# EAGLE library part C2858290 (library switch_multidirectional)
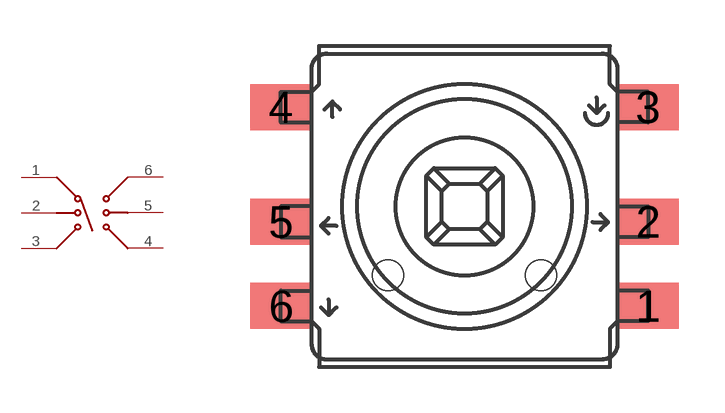
[diagram p0: symbol with the pads of C2858290; footprint C2858290]

Designator prefix -

## C2858290  [C2858290]
1  P$1
2  P$2
3  P$3
4  P$4
5  P$5
6  P$6

## Footprint C2858290 (pad centres in mm)
smd 2 x 1.5: 1 6,-3.25; 2 6,-0.5; 3 6,3.25; 4 -6,3.25; 5 -6,-0.5; 6 -6,-3.25
hole 1 at -2.5,-2.25
hole 1 at 2.5,-2.25